# Altium schematic symbol library Silicon Die Holders.SchLib: 9 symbols
Pins are listed as number, name and electrical type; pins without a type are passive.

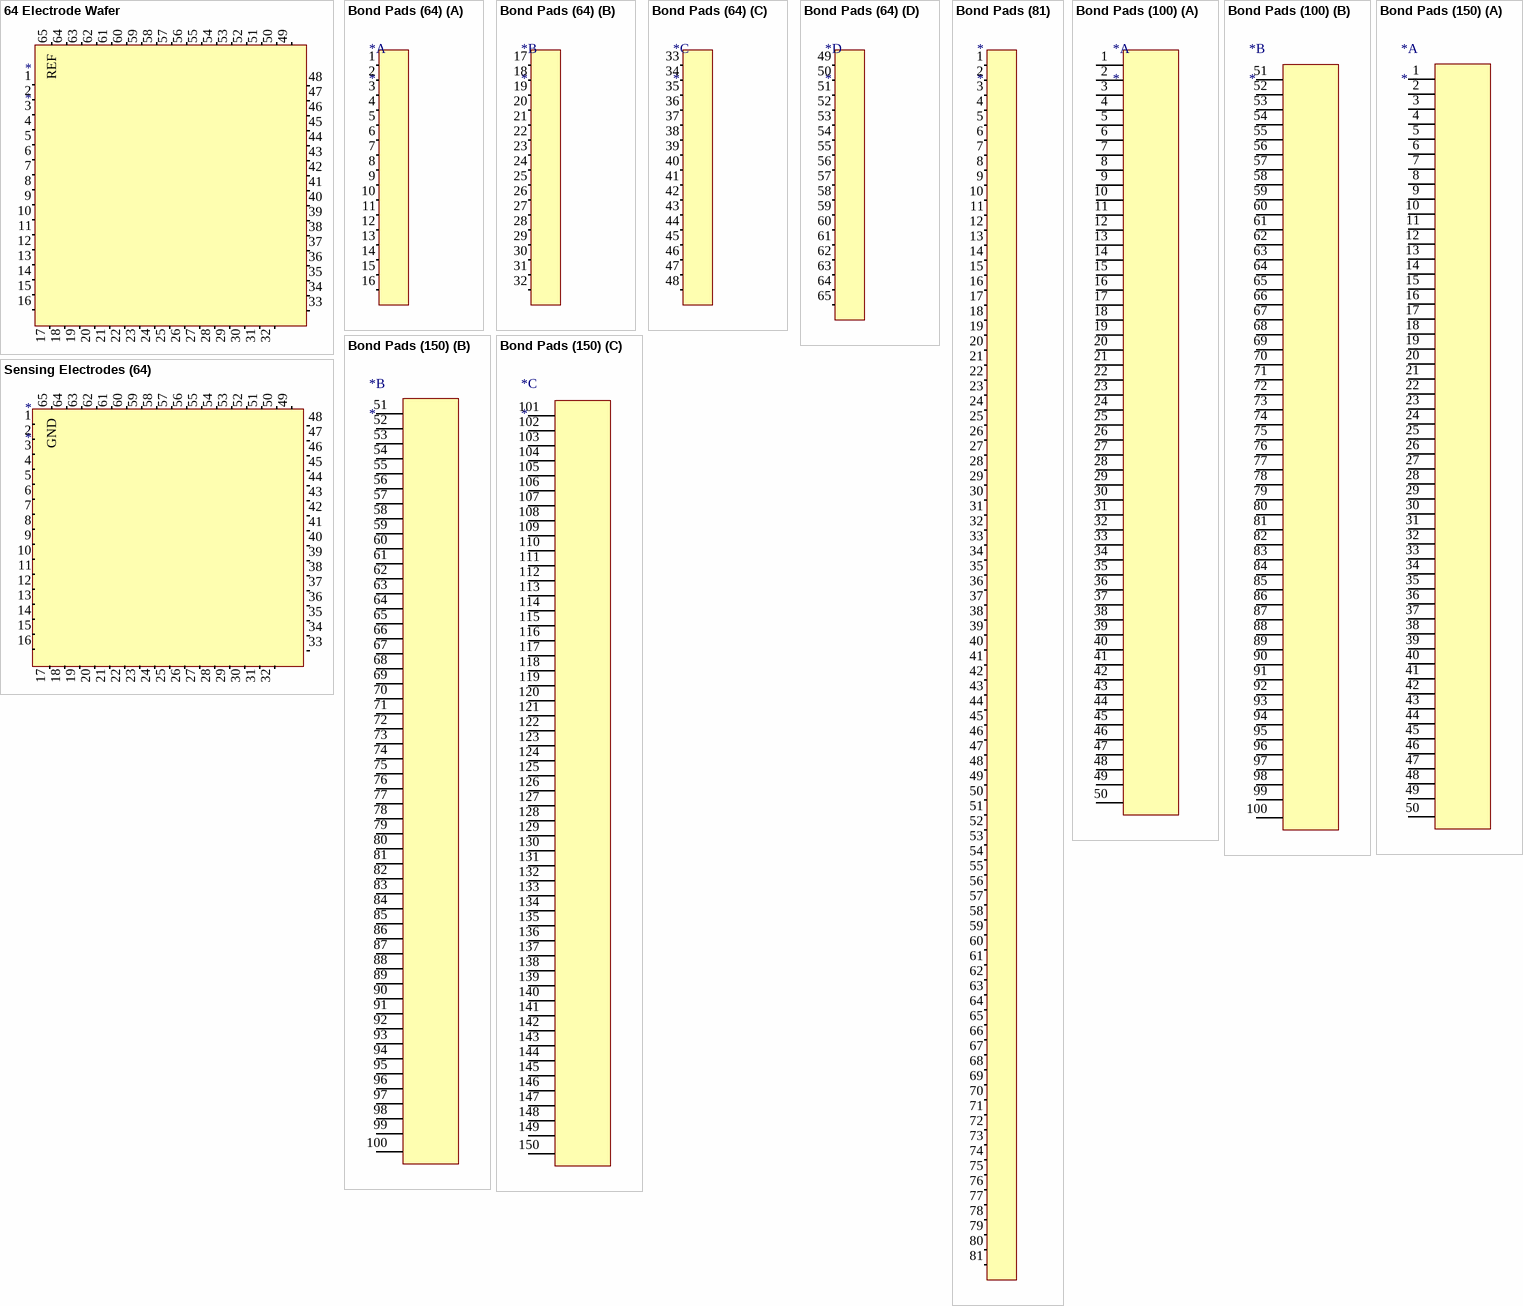
[diagram p0: symbols 64 Electrode Wafer to Sensing Electrodes (64)]

## 64 Electrode Wafer
designator *
pins: 1 (in), 2 (in), 3 (in), 4 (in), 5 (in), 6 (in), 7 (in), 8 (in), 9 (in), 10 (in), 11 (in), 12 (in), 13 (in), 14 (in), 15 (in), 16 (in), 17 (in), 18 (in), 19 (in), 20 (in), 21 (in), 22 (in), 23 (in), 24 (in), 25 (in), 26 (in), 27 (in), 28 (in), 29 (in), 30 (in), 31 (in), 32 (in), 33 (in), 34 (in), 35 (in), 36 (in), 37 (in), 38 (in), 39 (in), 40 (in), 41 (in), 42 (in), 43 (in), 44 (in), 45 (in), 46 (in), 47 (in), 48 (in), 49 (in), 50 (in), 51 (in), 52 (in), 53 (in), 54 (in), 55 (in), 56 (in), 57 (in), 58 (in), 59 (in), 60 (in), 61 (in), 62 (in), 63 (in), 64 (in), 65 REF (in)

## Bond Pads (64)
designator *
part A pins: 1 (out), 2 (out), 3 (out), 4 (out), 5 (out), 6 (out), 7 (out), 8 (out), 9 (out), 10 (out), 11 (out), 12 (out), 13 (out), 14 (out), 15 (out), 16 (out)
part B pins: 17 (out), 18 (out), 19 (out), 20 (out), 21 (out), 22 (out), 23 (out), 24 (out), 25 (out), 26 (out), 27 (out), 28 (out), 29 (out), 30 (out), 31 (out), 32 (out)
part C pins: 33 (out), 34 (out), 35 (out), 36 (out), 37 (out), 38 (out), 39 (out), 40 (out), 41 (out), 42 (out), 43 (out), 44 (out), 45 (out), 46 (out), 47 (out), 48 (out)
part D pins: 49 (out), 50 (out), 51 (out), 52 (out), 53 (out), 54 (out), 55 (out), 56 (out), 57 (out), 58 (out), 59 (out), 60 (out), 61 (out), 62 (out), 63 (out), 64 (out), 65 (power) "GND"

## Bond Pads (81)
designator *
footprint Bond Pads (81)
pins: 1 (in), 2 (in), 3 (in), 4 (in), 5 (in), 6 (in), 7 (in), 8 (in), 9 (in), 10 (in), 11 (in), 12 (in), 13 (in), 14 (in), 15 (in), 16 (in), 17 (in), 18 (in), 19 (in), 20 (in), 21 (in), 22 (in), 23 (in), 24 (in), 25 (in), 26 (in), 27 (in), 28 (in), 29 (in), 30 (in), 31 (in), 32 (in), 33 (in), 34 (in), 35 (in), 36 (in), 37 (in), 38 (in), 39 (in), 40 (in), 41 (in), 42 (in), 43 (in), 44 (in), 45 (in), 46 (in), 47 (in), 48 (in), 49 (in), 50 (in), 51 (in), 52 (in), 53 (in), 54 (in), 55 (in), 56 (in), 57 (in), 58 (in), 59 (in), 60 (in), 61 (in), 62 (in), 63 (in), 64 (in), 65 (in), 66 (in), 67 (in), 68 (in), 69 (in), 70 (in), 71 (in), 72 (in), 73 (in), 74 (in), 75 (in), 76 (in), 77 (in), 78 (in), 79 (in), 80 (in), 81 (in)

## Bond Pads (100)
designator *
part A pins: 1, 2, 3, 4, 5, 6, 7, 8, 9, 10, 11, 12, 13, 14, 15, 16, 17, 18, 19, 20, 21, 22, 23, 24, 25, 26, 27, 28, 29, 30, 31, 32, 33, 34, 35, 36, 37, 38, 39, 40, 41, 42, 43, 44, 45, 46, 47, 48, 49, 50
part B pins: 51, 52, 53, 54, 55, 56, 57, 58, 59, 60, 61, 62, 63, 64, 65, 66, 67, 68, 69, 70, 71, 72, 73, 74, 75, 76, 77, 78, 79, 80, 81, 82, 83, 84, 85, 86, 87, 88, 89, 90, 91, 92, 93, 94, 95, 96, 97, 98, 99, 100

## Bond Pads (150)
designator *
part A pins: 1, 2, 3, 4, 5, 6, 7, 8, 9, 10, 11, 12, 13, 14, 15, 16, 17, 18, 19, 20, 21, 22, 23, 24, 25, 26, 27, 28, 29, 30, 31, 32, 33, 34, 35, 36, 37, 38, 39, 40, 41, 42, 43, 44, 45, 46, 47, 48, 49, 50
part B pins: 51, 52, 53, 54, 55, 56, 57, 58, 59, 60, 61, 62, 63, 64, 65, 66, 67, 68, 69, 70, 71, 72, 73, 74, 75, 76, 77, 78, 79, 80, 81, 82, 83, 84, 85, 86, 87, 88, 89, 90, 91, 92, 93, 94, 95, 96, 97, 98, 99, 100
part C pins: 101, 102, 103, 104, 105, 106, 107, 108, 109, 110, 111, 112, 113, 114, 115, 116, 117, 118, 119, 120, 121, 122, 123, 124, 125, 126, 127, 128, 129, 130, 131, 132, 133, 134, 135, 136, 137, 138, 139, 140, 141, 142, 143, 144, 145, 146, 147, 148, 149, 150

## Sensing Electrodes (64)
designator *
pins: 1 (in), 2 (in), 3 (in), 4 (in), 5 (in), 6 (in), 7 (in), 8 (in), 9 (in), 10 (in), 11 (in), 12 (in), 13 (in), 14 (in), 15 (in), 16 (in), 17 (in), 18 (in), 19 (in), 20 (in), 21 (in), 22 (in), 23 (in), 24 (in), 25 (in), 26 (in), 27 (in), 28 (in), 29 (in), 30 (in), 31 (in), 32 (in), 33 (in), 34 (in), 35 (in), 36 (in), 37 (in), 38 (in), 39 (in), 40 (in), 41 (in), 42 (in), 43 (in), 44 (in), 45 (in), 46 (in), 47 (in), 48 (in), 49 (in), 50 (in), 51 (in), 52 (in), 53 (in), 54 (in), 55 (in), 56 (in), 57 (in), 58 (in), 59 (in), 60 (in), 61 (in), 62 (in), 63 (in), 64 (in), 65 GND (power)

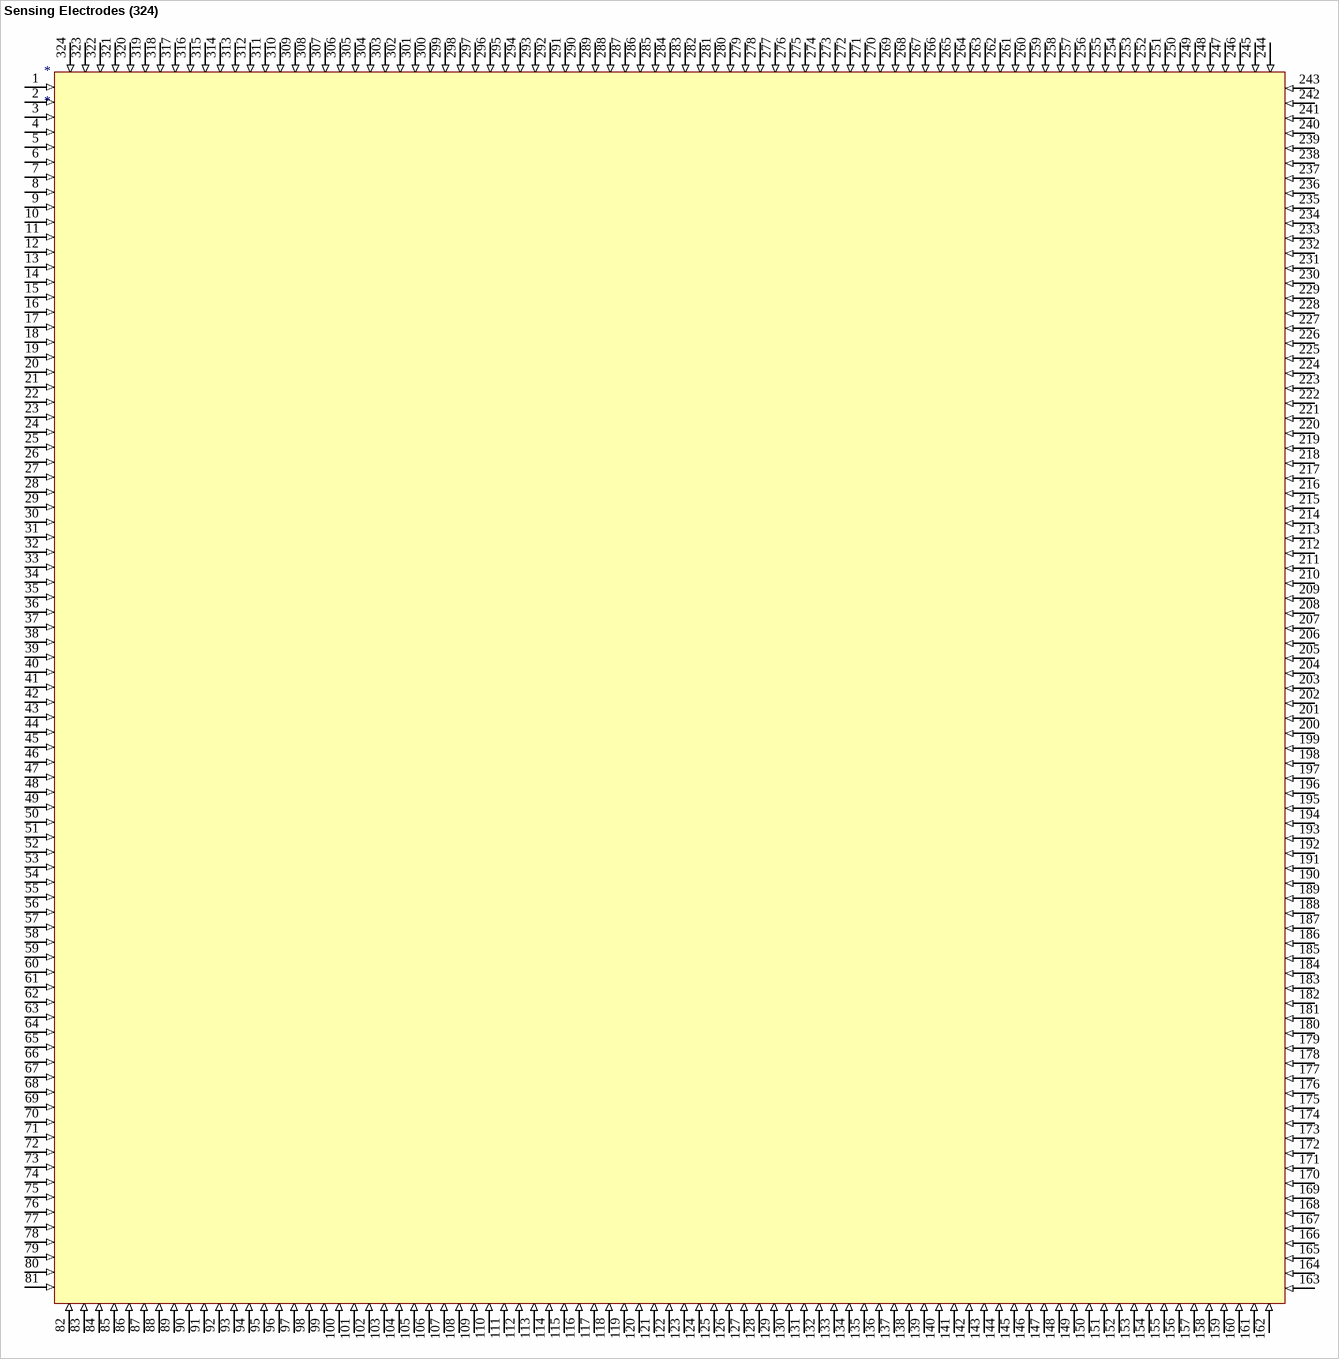
[diagram p1: symbol Sensing Electrodes (324)]

## Sensing Electrodes (324)
designator *
footprint Sensing Area (324)
pins: 1 (in), 2 (in), 3 (in), 4 (in), 5 (in), 6 (in), 7 (in), 8 (in), 9 (in), 10 (in), 11 (in), 12 (in), 13 (in), 14 (in), 15 (in), 16 (in), 17 (in), 18 (in), 19 (in), 20 (in), 21 (in), 22 (in), 23 (in), 24 (in), 25 (in), 26 (in), 27 (in), 28 (in), 29 (in), 30 (in), 31 (in), 32 (in), 33 (in), 34 (in), 35 (in), 36 (in), 37 (in), 38 (in), 39 (in), 40 (in), 41 (in), 42 (in), 43 (in), 44 (in), 45 (in), 46 (in), 47 (in), 48 (in), 49 (in), 50 (in), 51 (in), 52 (in), 53 (in), 54 (in), 55 (in), 56 (in), 57 (in), 58 (in), 59 (in), 60 (in), 61 (in), 62 (in), 63 (in), 64 (in), 65 (in), 66 (in), 67 (in), 68 (in), 69 (in), 70 (in), 71 (in), 72 (in), 73 (in), 74 (in), 75 (in), 76 (in), 77 (in), 78 (in), 79 (in), 80 (in), 81 (in), 82 (in), 83 (in), 84 (in), 85 (in), 86 (in), 87 (in), 88 (in), 89 (in), 90 (in), 91 (in), 92 (in), 93 (in), 94 (in), 95 (in), 96 (in), 97 (in), 98 (in), 99 (in), 100 (in), 101 (in), 102 (in), 103 (in), 104 (in), 105 (in), 106 (in), 107 (in), 108 (in), 109 (in), 110 (in), 111 (in), 112 (in), 113 (in), 114 (in), 115 (in), 116 (in), 117 (in), 118 (in), 119 (in), 120 (in), 121 (in), 122 (in), 123 (in), 124 (in), 125 (in), 126 (in), 127 (in), 128 (in), 129 (in), 130 (in), 131 (in), 132 (in), 133 (in), 134 (in), 135 (in), 136 (in), 137 (in), 138 (in), 139 (in), 140 (in), 141 (in), 142 (in), 143 (in), 144 (in), 145 (in), 146 (in), 147 (in), 148 (in), 149 (in), 150 (in), 151 (in), 152 (in), 153 (in), 154 (in), 155 (in), 156 (in), 157 (in), 158 (in), 159 (in), 160 (in), 161 (in), 162 (in), 163 (in), 164 (in), 165 (in), 166 (in), 167 (in), 168 (in), 169 (in), 170 (in), 171 (in), 172 (in), 173 (in), 174 (in), 175 (in), 176 (in), 177 (in), 178 (in), 179 (in), 180 (in), 181 (in), 182 (in), 183 (in), 184 (in), 185 (in), 186 (in), 187 (in), 188 (in), 189 (in), 190 (in), 191 (in), 192 (in), 193 (in), 194 (in), 195 (in), 196 (in), 197 (in), 198 (in), 199 (in), 200 (in), 201 (in), 202 (in), 203 (in), 204 (in), 205 (in), 206 (in), 207 (in), 208 (in), 209 (in), 210 (in), 211 (in), 212 (in), 213 (in), 214 (in), 215 (in), 216 (in), 217 (in), 218 (in), 219 (in), 220 (in), 221 (in), 222 (in), 223 (in), 224 (in), 225 (in), 226 (in), 227 (in), 228 (in), 229 (in), 230 (in), 231 (in), 232 (in), 233 (in), 234 (in), 235 (in), 236 (in), 237 (in), 238 (in), 239 (in), 240 (in), 241 (in), 242 (in), 243 (in), 244 (in), 245 (in), 246 (in), 247 (in), 248 (in), 249 (in), 250 (in), 251 (in), 252 (in), 253 (in), 254 (in), 255 (in), 256 (in), 257 (in), 258 (in), 259 (in), 260 (in), 261 (in), 262 (in), 263 (in), 264 (in), 265 (in), 266 (in), 267 (in), 268 (in), 269 (in), 270 (in), 271 (in), 272 (in), 273 (in), 274 (in), 275 (in), 276 (in), 277 (in), 278 (in), 279 (in), 280 (in), 281 (in), 282 (in), 283 (in), 284 (in), 285 (in), 286 (in), 287 (in), 288 (in), 289 (in), 290 (in), 291 (in), 292 (in), 293 (in), 294 (in), 295 (in), 296 (in), 297 (in), 298 (in), 299 (in), 300 (in), 301 (in), 302 (in), 303 (in), 304 (in), 305 (in), 306 (in), 307 (in), 308 (in), 309 (in), 310 (in), 311 (in), 312 (in), 313 (in), 314 (in), 315 (in), 316 (in), 317 (in), 318 (in), 319 (in), 320 (in), 321 (in), 322 (in), 323 (in), 324 (in)

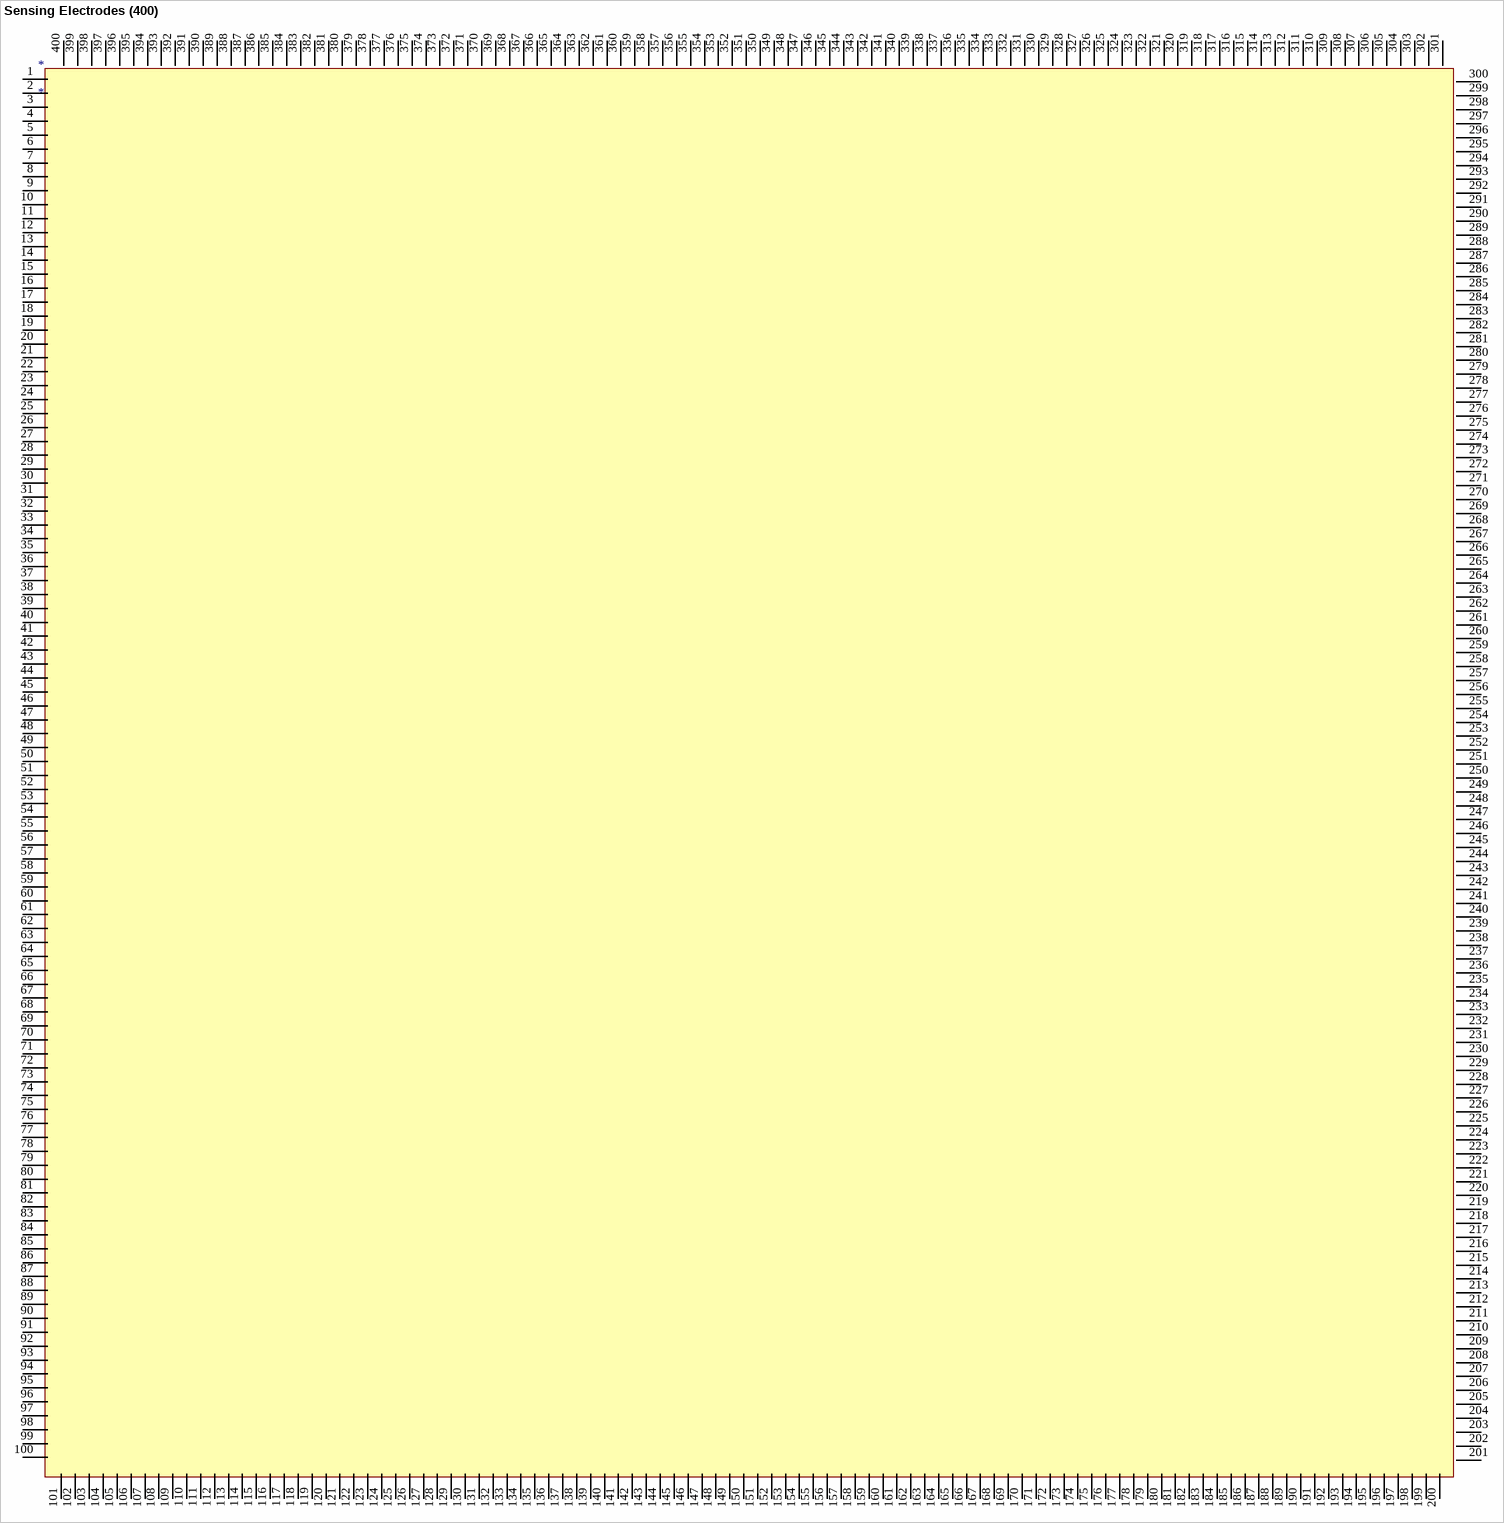
[diagram p2: symbol Sensing Electrodes (400)]

## Sensing Electrodes (400)
designator *
pins: 1, 2, 3, 4, 5, 6, 7, 8, 9, 10, 11, 12, 13, 14, 15, 16, 17, 18, 19, 20, 21, 22, 23, 24, 25, 26, 27, 28, 29, 30, 31, 32, 33, 34, 35, 36, 37, 38, 39, 40, 41, 42, 43, 44, 45, 46, 47, 48, 49, 50, 51, 52, 53, 54, 55, 56, 57, 58, 59, 60, 61, 62, 63, 64, 65, 66, 67, 68, 69, 70, 71, 72, 73, 74, 75, 76, 77, 78, 79, 80, 81, 82, 83, 84, 85, 86, 87, 88, 89, 90, 91, 92, 93, 94, 95, 96, 97, 98, 99, 100, 101, 102, 103, 104, 105, 106, 107, 108, 109, 110, 111, 112, 113, 114, 115, 116, 117, 118, 119, 120, 121, 122, 123, 124, 125, 126, 127, 128, 129, 130, 131, 132, 133, 134, 135, 136, 137, 138, 139, 140, 141, 142, 143, 144, 145, 146, 147, 148, 149, 150, 151, 152, 153, 154, 155, 156, 157, 158, 159, 160, 161, 162, 163, 164, 165, 166, 167, 168, 169, 170, 171, 172, 173, 174, 175, 176, 177, 178, 179, 180, 181, 182, 183, 184, 185, 186, 187, 188, 189, 190, 191, 192, 193, 194, 195, 196, 197, 198, 199, 200, 201, 202, 203, 204, 205, 206, 207, 208, 209, 210, 211, 212, 213, 214, 215, 216, 217, 218, 219, 220, 221, 222, 223, 224, 225, 226, 227, 228, 229, 230, 231, 232, 233, 234, 235, 236, 237, 238, 239, 240, 241, 242, 243, 244, 245, 246, 247, 248, 249, 250, 251, 252, 253, 254, 255, 256, 257, 258, 259, 260, 261, 262, 263, 264, 265, 266, 267, 268, 269, 270, 271, 272, 273, 274, 275, 276, 277, 278, 279, 280, 281, 282, 283, 284, 285, 286, 287, 288, 289, 290, 291, 292, 293, 294, 295, 296, 297, 298, 299, 300, 301, 302, 303, 304, 305, 306, 307, 308, 309, 310, 311, 312, 313, 314, 315, 316, 317, 318, 319, 320, 321, 322, 323, 324, 325, 326, 327, 328, 329, 330, 331, 332, 333, 334, 335, 336, 337, 338, 339, 340, 341, 342, 343, 344, 345, 346, 347, 348, 349, 350, 351, 352, 353, 354, 355, 356, 357, 358, 359, 360, 361, 362, 363, 364, 365, 366, 367, 368, 369, 370, 371, 372, 373, 374, 375, 376, 377, 378, 379, 380, 381, 382, 383, 384, 385, 386, 387, 388, 389, 390, 391, 392, 393, 394, 395, 396, 397, 398, 399, 400

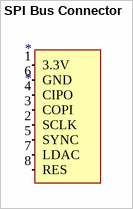
[diagram p3: symbol SPI Bus Connector]

## SPI Bus Connector
designator *
pins: 1 3.3V (power), 2 SCLK (out), 3 COPI (out), 4 CIPO (in), 5 SYNC (out), 6 GND (power), 7 LDAC (out), 8 RES (out)